# Altium schematic symbol library Si2302DS.SchLib: 1 symbol
Pins are listed as number, name and electrical type; pins without a type are passive.

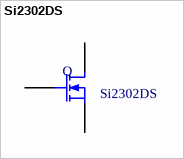
[diagram p0: symbol Si2302DS]

## Si2302DS
designator Q  value Si2302DS  (hidden comment: *)
Manufacturer Code: SI2302DS,215; Manufacturer: NXP Semiconductors; Voltage (Vds): 20V; Current (Id): 2500mA; Voltage (Vgs): 650mV; Farnell Code: 1758124; Unit Price: 0,26 €
footprint SOT23
pins: 1 G, 2 S, 3 D